# EAGLE library part LORA-02_SX1278_MODULE (library LoRa-02_SX1278_Module)
Created by Simon PS, Jun 2023
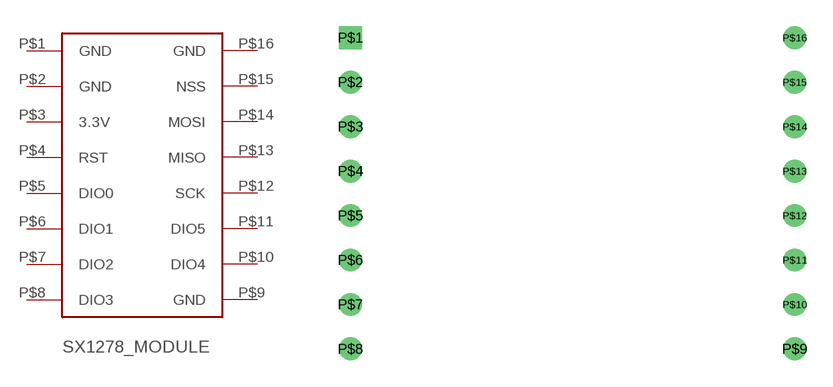
[diagram p0: symbol with the pads of LORA-02_SX1278_MODULE; footprint LORA-02_SX1278_MODULE]

Designator prefix -

## LORA-02_SX1278_MODULE  [LORA-02_SX1278_MODULE]
P$1  GND
P$2  GND
P$3  3.3V
P$4  RST
P$5  DIO0
P$6  DIO1
P$7  DIO2
P$8  DIO3
P$9  GND
P$10  DIO4
P$11  DIO5
P$12  SCK
P$13  MISO
P$14  MOSI
P$15  NSS
P$16  GND

## Footprint LORA-02_SX1278_MODULE (pad centres in mm)
created by Simon Wong PS
drill 0.8 square: P$1 -12.7,10.16
drill 0.8: P$2 -12.7,7.62; P$3 -12.7,5.08; P$4 -12.7,2.54; P$5 -12.7,0; P$6 -12.7,-2.54; P$7 -12.7,-5.08; P$8 -12.7,-7.62; P$9 12.7,-7.62; P$10 12.7,-5.08; P$11 12.7,-2.54; P$12 12.7,0; P$13 12.7,2.54; P$14 12.7,5.08; P$15 12.7,7.62; P$16 12.7,10.16